# EAGLE library part TPS26630 (library HyTechDevices-ltc4421 components)
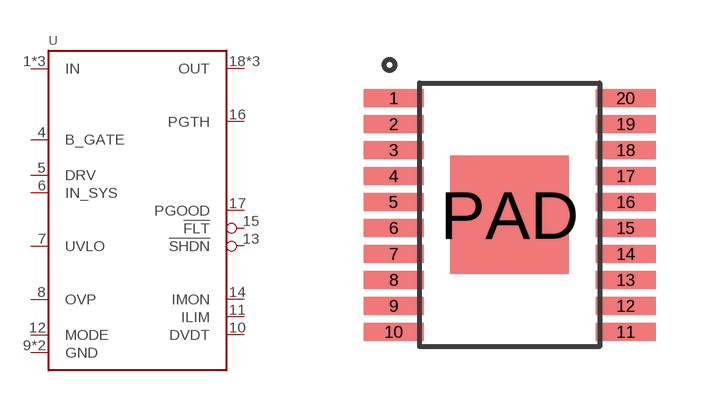
[diagram p27: symbol with the pads of HTSSOP-20; footprint HTSSOP-20]

Designator prefix -

## TPS26630  [HTSSOP-20]
1  IN  in
2  IN  in
3  IN  in
4  B_GATE  out
5  DRV  out
6  IN_SYS  in
7  UVLO  in
8  OVP  in
9  GND  pwr
10  DVDT
11  ILIM
12  MODE  in
13  !SHDN  in
14  IMON  out
15  !FLT  out
16  PGTH  in
17  PGOOD  out
18  OUT  out
19  OUT  out
20  OUT  out
PAD  GND  pwr

## Footprint HTSSOP-20 (pad centres in mm)
HTSSOP-20 Datasheet <https://www.ti.com/lit/ds/symlink/tps2663.pdf> Note: Based on page 48 and 49.
smd 1.5 x 0.45: 1 -2.9,2.925; 2 -2.9,2.275; 3 -2.9,1.625; 4 -2.9,0.975; 5 -2.9,0.325; 6 -2.9,-0.325; 7 -2.9,-0.975; 8 -2.9,-1.625; 9 -2.9,-2.275; 10 -2.9,-2.925; 11 2.9,-2.925; 12 2.9,-2.275; 13 2.9,-1.625; 14 2.9,-0.975; 15 2.9,-0.325; 16 2.9,0.325; 17 2.9,0.975; 18 2.9,1.625; 19 2.9,2.275; 20 2.9,2.925
smd 2.96 x 2.96: PAD 0,0